# Altium footprint library Chokes.PcbLib: 19 footprints (part 2 of 2)
Each footprint in its own frame and in the unit in brackets; x right, y up, seen from the top. Pads: shape width x height; smd on the part's side, far side on the other; paste and mask are expansions set on the pad; w line width, h text height; cw(c..) or ccw(c..) is an arc to the next point about the centre after c.
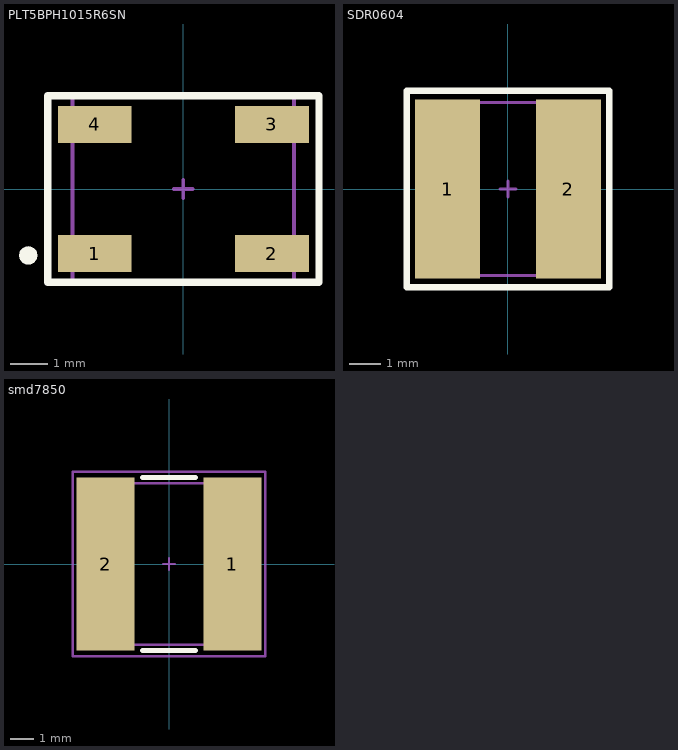
[diagram p1: the footprints below, top view; thin cyan lines are the x and y axes]

## PLT5BPH1015R6SN [mm]
pads (5):
  rect 2x1 smd: 1(-2.4,-1.75) 2(2.4,-1.75) 3(2.4,1.75) 4(-2.4,1.75)
  round 0.5 on Top Overlay: ""(-4.2,-1.8)
Top Overlay:
  lines w0.2: -3.675,-2.525 3.675,-2.525 3.675,2.525 -3.675,2.525 -3.675,-2.525
Top Assy:
  lines w0.1: -3,-2.5 3,-2.5 3,2.5 -3,2.5 -3,-2.5
Border (Mech15):
  lines w0.1: -0.25,0 0.25,0 ; 0,-0.25 0,0.25 ; -3.675,-2.525 -3.675,2.525 3.675,2.525 3.675,-2.525 -3.675,-2.525
3D body "PLT5BPH1015R6SN.step": height 5.05, standoff -0.02, extent -3,-2.5 3,2.5

## SDR0604 [mm]
pads (2):
  rect 2.1x5.8 smd: 1(-1.95,0) 2(1.95,0)
Top Overlay:
  lines w0.2: -3.275,-3.175 -3.275,3.175 3.275,3.175 3.275,-3.175 -3.275,-3.175
Top Assy:
  lines w0.1: -2.754,-2.8 2.754,-2.8 2.754,2.8 -2.754,2.8 -2.754,-2.8
Border (Mech15):
  lines w0.1: -0.25,0 0.25,0 ; 0,-0.25 0,0.25 ; -3.275,-3.175 -3.275,3.175 3.275,3.175 3.275,-3.175 -3.275,-3.175
3D body "User Library-SDR0604.step": height 4.54, standoff -0.01, extent -2.754,-2.8 2.754,2.8

## smd7850 [mm]
pads (2):
  rect 2.5x7.5 smd: 1(2.75,0) 2(-2.75,0)
Top Overlay:
  lines w0.2: -1.15,-3.75 1.15,-3.75 ; -1.15,3.75 1.15,3.75
Top Assy:
  lines w0.1: -3.813,-3.5 -3.813,3.5 3.813,3.5 3.813,-3.5 -3.813,-3.5
Border (Mech15):
  lines w0.1: -0.25,0 0.25,0 ; 0,-0.25 0,0.25 ; -4.175,-4 4.175,-4 4.175,4 -4.175,4 -4.175,-4
3D body "Inductor SMD 7850.stp": height 4.94, standoff -0.01, extent -3.813,-3.5 3.813,3.5